# Altium schematic symbol library SS12F27.SchLib: 1 symbol
Pins are listed as number, name and electrical type; pins without a type are passive.

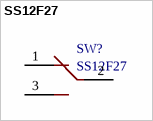
[diagram p0: symbol SS12F27]

## SS12F27
designator SW?
Switch
footprint SS12F27 (Switch)
pins: 1, 2, 3